# EAGLE library part TLV61048DBVT (library TLV61048DBVT)
Texas Instruments 15-V output voltage non-synchronous boost converter in SOT-23 package 6-SOT-23 -40 to 125 Source: Datasheet <http://www.ti.com/lit/ds/symlink/tlv61048.pdf>
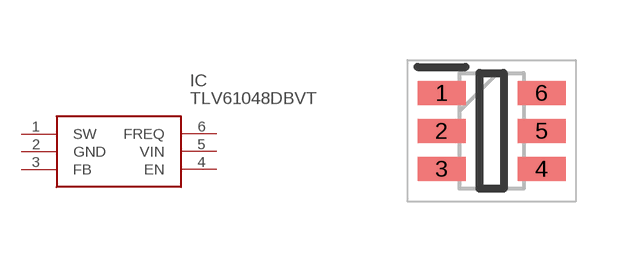
[diagram p0: symbol with the pads of SOT95P280X145-6N; footprint SOT95P280X145-6N]

Designator prefix IC

## TLV61048DBVT (Description: Texas Instruments 15-V output voltage non-synchronous boost converter in SOT-23 package 6-SOT-23 -40 to 125; Height: 1.45mm; Manufacturer_Name: Texas Instruments; Manufacturer_Part_Number: TLV61048DBVT)  [SOT95P280X145-6N]
1  SW
2  GND
3  FB
4  EN
5  VIN
6  FREQ

## Footprint SOT95P280X145-6N (pad centres in mm)
SOT-23 (6)
smd 1.2 x 0.6: 1 -1.25,0.95; 2 -1.25,0; 3 -1.25,-0.95; 4 1.25,-0.95; 5 1.25,0; 6 1.25,0.95